# Altium integrated library 12V_Relais.IntLib: 1 symbol
Pins are listed as number, name and electrical type; pins without a type are passive.

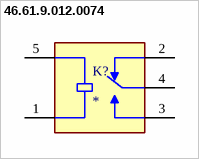
[diagram p0: symbol 46.61.9.012.0074]

## 46.61.9.012.0074
designator K?
SPDT PCB Mount Non-Latching Relay Tab, 16 A, 12V dc, 46 Series | Finder 46.61.9.012.0074; MF: Finder Relays, Inc.; SnapEDA_Link: https://www.snapeda.com/parts/46.61.9.012.0074/Finder/view-part/?ref=snap; Package: None; Value: *; MP: 46.61.9.012.0074; Check_prices: https://www.snapeda.com/parts/46.61.9.012.0074/Finder/view-part/?ref=eda
footprint RELAY_46.61.9.012.0074
pins: 1 A2, 2 NC, 3 NO, 4 COM, 5 A1